# EAGLE library part WE-FB_LT35XX/LT3748_EP10_750310564 (library Wurth_Elektronik_Passive_rev15c)
WE-FB Flyback Transformer LT35xx / LT3748 Characteristics Standard transformers for various output voltages currents available Easy design of custom power supply due to standard circuit and change of transformers and two components for feedback loop Isolation voltage up to 2.5 kV Applications Isolated power design Sensor interfaces Isolated telecom converters Power over Ethernet <http://katalog.we-online.de/media/images/eisos/UtFB_LT_MID_pf2.jpg> Details see: http://katalog.we-online.de/en/pbs/WE-FB_Linear? Updated 2015-04-03 2015 (C) Wurth Elektronik
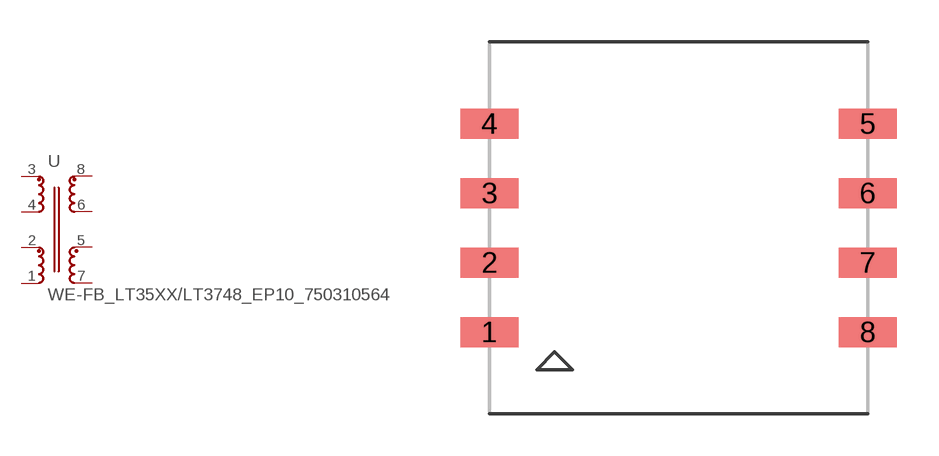
[diagram p82: symbol with the pads of WE-FB_EP10; footprint WE-FB_EP10]

Designator prefix -

## WE-FB_LT35XX/LT3748_EP10_750310564750310564  [WE-FB_EP10]
1  6  pas
2  7  pas
3  1  pas
4  8  pas
5  4  pas
6  3  pas
7  5  pas
8  2  pas

## Footprint WE-FB_EP10 (pad centres in mm)
smd 2.08 x 1.07: 1 -6.78,-3.735; 2 -6.78,-1.245; 3 -6.78,1.245; 4 -6.78,3.735; 5 6.78,3.735; 6 6.78,1.245; 7 6.78,-1.245; 8 6.78,-3.735